# Altium schematic symbol library 74HC165PW,118.SchLib: 2 symbols
Pins are listed as number, name and electrical type; pins without a type are passive.

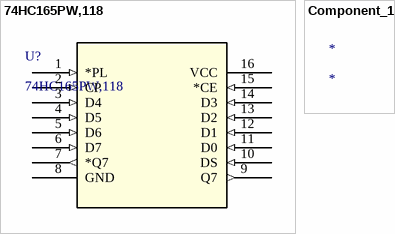
[diagram p0: symbols 74HC165PW,118 to Component_1]

## 74HC165PW,118
designator U?
No Description Available; Mfr_Name: Nexperia; Copyright: Copyright (C) 2022 Ultra Librarian. All rights reserved.; Manufacturer_Part_Number: 74HC165PW,118; RefDes: RefDes; Type: DEV
footprint TSSOP16_SOT403-1_NEX
footprint TSSOP16_N (5*6.4*1mm（长宽高） 封装库来自淘宝卖家 ID：黄晶宝石)
pins: 1 *PL (in), 2 CP (in), 3 D4 (in), 4 D5 (in), 5 D6 (in), 6 D7 (in), 7 *Q7 (out), 8 GND, 9 Q7 (out), 10 DS (in), 11 D0 (in), 12 D1 (in), 13 D2 (in), 14 D3 (in), 15 *CE (in), 16 VCC (power)

## Component_1
designator *